# Altium footprint library BSS138LT3G.PcbLib: 3 footprints
Each footprint in its own frame and in the unit in brackets; x right, y up, seen from the top. Pads: shape width x height; smd on the part's side, far side on the other; paste and mask are expansions set on the pad; w line width, h text height; cw(c..) or ccw(c..) is an arc to the next point about the centre after c.
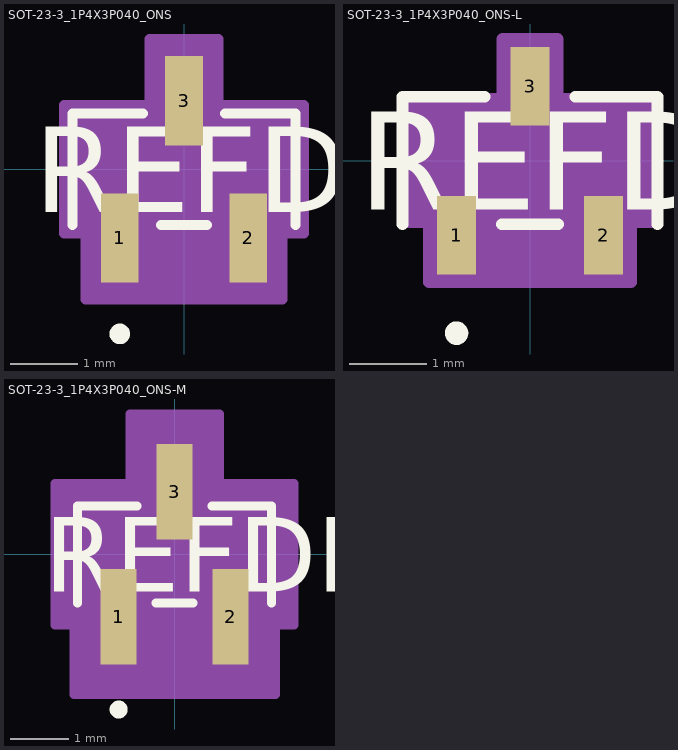
[diagram p0: the footprints below, top view; thin cyan lines are the x and y axes]

## SOT-23-3_1P4X3P040_ONS [mil]
pads (3):
  rect 22x52 smd paste+0 mask+0: 1(-37.5,-40) 2(37.5,-40) 3(0,40)
Top Overlay:
  circle w6: c-37.5,-96 r3
  lines w6: -65,-32.5 -65,32.5 -24.1,32.5 ; -13.4,-32.5 13.4,-32.5 ; 24.1,32.5 65,32.5 65,-32.5
  text "REFDES" at -87.5,-25 h50
Mechanical 13:
  circle w0: c-37.5,-17.5 r3
  lines w1: -60,-27.5 60,-27.5 60,27.5 -60,27.5 -60,-27.5 ; -47.5,-52 -47.5,-27.5 -27.5,-27.5 -27.5,-52 -47.5,-52 ; -10,27.5 10,27.5 10,52 -10,52 -10,27.5 ; 27.5,-52 27.5,-27.5 47.5,-27.5 47.5,-52 27.5,-52
  text "RefDes2" at -87.5,-25 h50
Mechanical 15:
  region: -70,-37.5 -70,37.5 -20,37.5 -20,76 20,76 20,37.5 70,37.5 70,-37.5 57.5,-37.5 57.5,-76 -57.5,-76 -57.5,-37.5
  lines w6: -70,-37.5 -70,37.5 -20,37.5 -20,76 20,76 20,37.5 70,37.5 70,-37.5 57.5,-37.5 57.5,-76 -57.5,-76 -57.5,-37.5 -70,-37.5
3D body "SOT-23-3_1P4X3P040_ONS.step": height 44.09, standoff 0, extent -60,-52.01 60,52.01

## SOT-23-3_1P4X3P040_ONS-L [mil]
pads (3):
  rect 20x40 smd paste+0 mask+0: 1(-37.5,-38) 2(37.5,-38) 3(0,38)
Top Overlay:
  circle w6: c-37.5,-88 r3
  lines w6: -65,-32.5 -65,32.5 -23.1,32.5 ; -14.4,-32.5 14.4,-32.5 ; 23.1,32.5 65,32.5 65,-32.5
  text "REFDES" at -87.5,-25 h50
Mechanical 13:
  circle w0: c-37.5,-17.5 r3
  lines w1: -60,-27.5 60,-27.5 60,27.5 -60,27.5 -60,-27.5 ; -47.5,-52 -47.5,-27.5 -27.5,-27.5 -27.5,-52 -47.5,-52 ; -10,27.5 10,27.5 10,52 -10,52 -10,27.5 ; 27.5,-52 27.5,-27.5 47.5,-27.5 47.5,-52 27.5,-52
  text "RefDes2" at -87.5,-25 h50
Mechanical 15:
  region: -64,-31.5 -64,31.5 -14,31.5 -14,62 14,62 14,31.5 64,31.5 64,-31.5 51.5,-31.5 51.5,-62 -51.5,-62 -51.5,-31.5
  lines w6: -64,-31.5 -64,31.5 -14,31.5 -14,62 14,62 14,31.5 64,31.5 64,-31.5 51.5,-31.5 51.5,-62 -51.5,-62 -51.5,-31.5 -64,-31.5
3D body "SOT-23-3_1P4X3P040_ONS.step": height 44.09, standoff 0, extent -60,-52.01 60,52.01

## SOT-23-3_1P4X3P040_ONS-M [mil]
pads (3):
  rect 24x64 smd paste+0 mask+0: 1(-37.5,-42) 2(37.5,-42) 3(0,42)
Top Overlay:
  circle w6: c-37.5,-104 r3
  lines w6: -65,-32.5 -65,32.5 -25.1,32.5 ; -12.4,-32.5 12.4,-32.5 ; 25.1,32.5 65,32.5 65,-32.5
  text "REFDES" at -87.5,-25 h50
Mechanical 13:
  circle w0: c-37.5,-17.5 r3
  lines w1: -60,-27.5 60,-27.5 60,27.5 -60,27.5 -60,-27.5 ; -47.5,-52 -47.5,-27.5 -27.5,-27.5 -27.5,-52 -47.5,-52 ; -10,27.5 10,27.5 10,52 -10,52 -10,27.5 ; 27.5,-52 27.5,-27.5 47.5,-27.5 47.5,-52 27.5,-52
  text "RefDes2" at -87.5,-25 h50
Mechanical 15:
  region: -80,-47.5 -80,47.5 -30,47.5 -30,94 30,94 30,47.5 80,47.5 80,-47.5 67.5,-47.5 67.5,-94 -67.5,-94 -67.5,-47.5
  lines w6: -80,-47.5 -80,47.5 -30,47.5 -30,94 30,94 30,47.5 80,47.5 80,-47.5 67.5,-47.5 67.5,-94 -67.5,-94 -67.5,-47.5 -80,-47.5
3D body "SOT-23-3_1P4X3P040_ONS.step": height 44.09, standoff 0, extent -60,-52.01 60,52.01